# Altium schematic symbol library Schlib1.SchLib: 6 symbols
Pins are listed as number, name and electrical type; pins without a type are passive.

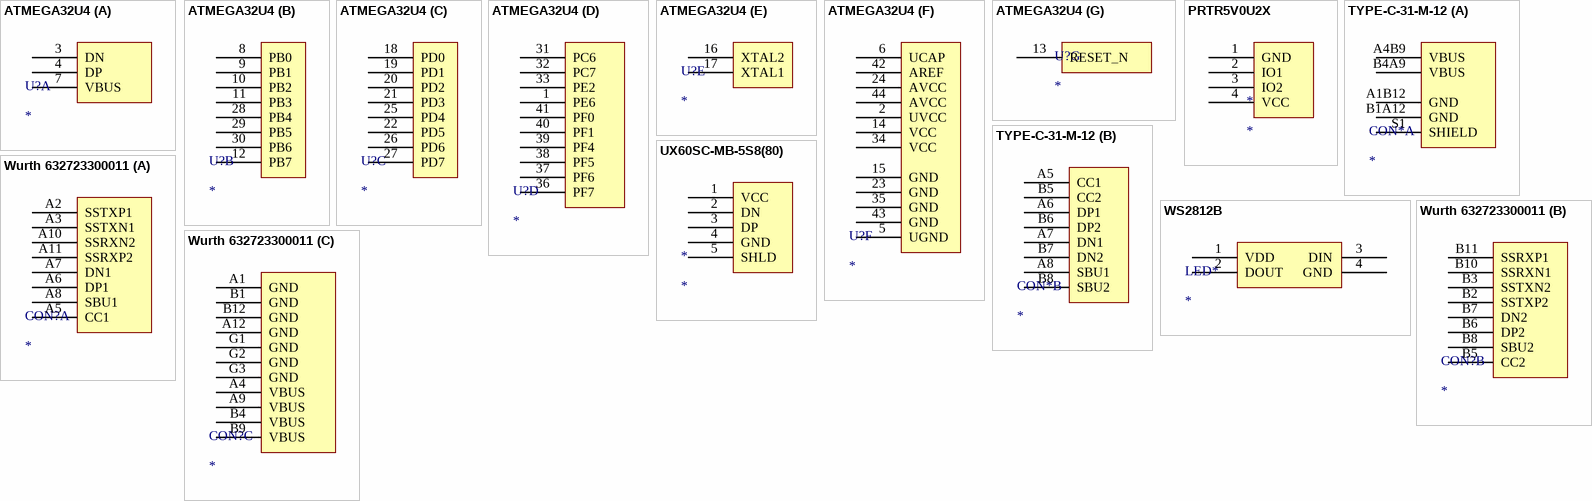
[diagram p0: symbols ATMEGA32U4 to Wurth 632723300011]

## ATMEGA32U4
designator U?
footprint QFP80P1188X1188X245-44N (QFP, 44-Leads, Body 9,95x9,95mm, Pitch 0,80mm, IPC Medium Density)
part A pins: 3 DN, 4 DP, 7 VBUS
part B pins: 8 PB0, 9 PB1, 10 PB2, 11 PB3, 12 PB7, 28 PB4, 29 PB5, 30 PB6
part C pins: 18 PD0, 19 PD1, 20 PD2, 21 PD3, 22 PD5, 25 PD4, 26 PD6, 27 PD7
part D pins: 1 PE6, 31 PC6, 32 PC7, 33 PE2, 36 PF7, 37 PF6, 38 PF5, 39 PF4, 40 PF1, 41 PF0
part E pins: 16 XTAL2, 17 XTAL1
part F pins: 2 UVCC, 5 UGND, 6 UCAP, 14 VCC, 15 GND, 23 GND, 24 AVCC, 34 VCC, 35 GND, 42 AREF, 43 GND, 44 AVCC
part G pins: 13 RESET_N

## PRTR5V0U2X
designator *
footprint SOT190P237X120-4N (SOT143, 4-Leads, Body 3,00x2,37mm, Pitch 1,90mm, IPC Medium Density)
pins: 1 GND, 2 IO1, 3 IO2, 4 VCC

## TYPE-C-31-M-12
designator CON*
MFG: Korean Hroparts Elec; MFGPN: TYPE-C-31-M-12
footprint TYPE-C-31-M-12
part A pins: A1B12 GND, A4B9 VBUS, B1A12 GND, B4A9 VBUS, S1 SHIELD
part B pins: A5 CC1, A6 DP1, A7 DN1, A8 SBU1, B5 CC2, B6 DP2, B7 DN2, B8 SBU2

## UX60SC-MB-5S8(80)
designator *
footprint UX60SC-MB-5S8(80)
pins: 1 VCC, 2 DN, 3 DP, 4 GND, 5 SHLD

## WS2812B
designator LED*
MFGPN: WS2812B
footprint WS2812B
pins: 1 VDD, 2 DOUT, 3 DIN, 4 GND

## Wurth 632723300011
designator CON?, comment for up to 1.6mm pcb  (value not drawn)
MFGPN: 632723300011; MFG: Wurth Electronics; Comment_1: *
footprint Wurth 632723300011
part A pins: A2 SSTXP1, A3 SSTXN1, A5 CC1, A6 DP1, A7 DN1, A8 SBU1, A10 SSRXN2, A11 SSRXP2
part B pins: B2 SSTXP2, B3 SSTXN2, B5 CC2, B6 DP2, B7 DN2, B8 SBU2, B10 SSRXN1, B11 SSRXP1
part C pins: A1 GND, A4 VBUS, A9 VBUS, A12 GND, B1 GND, B4 VBUS, B9 VBUS, B12 GND, G1 GND, G2 GND, G3 GND